# Altium footprint library bmp180.PcbLib: 1 footprints
Each footprint in its own frame and in the unit in brackets; x right, y up, seen from the top. Pads: shape width x height; smd on the part's side, far side on the other; paste and mask are expansions set on the pad; w line width, h text height; cw(c..) or ccw(c..) is an arc to the next point about the centre after c.
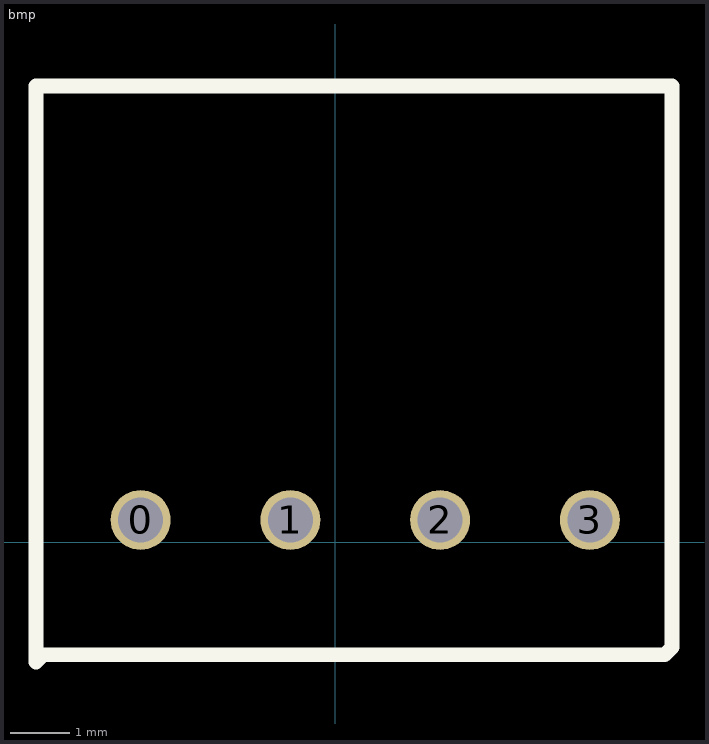
[diagram p0: the footprint, top view; thin cyan lines are the x and y axes]

## bmp [mil]
pads (4):
  round 40 hole 30: 0(-130,15) 1(-30,15) 2(70,15) 3(170,15)
Top Overlay:
  lines w10: -200,-80 -195,-75 220,-75 225,-70 225,305 -200,305 -200,-80
3D body: height 0, standoff 1, extent -205,-80 235,310